# Altium schematic symbol library Molex_2005290050.SchLib: 1 symbol
Pins are listed as number, name and electrical type; pins without a type are passive.

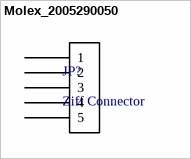
[diagram p0: symbol Molex_2005290050]

## Molex_2005290050
designator JP?, comment Ziff Connector
PartNumber: 2005290050; PartDescription: 1.0 FPC ZIF BTM CONT EMBT PKG 5C; Manufacturer: 2005290050; Package Type: 5 SMD; Supplier 1: Digi-Key; Supplier Part Number 1: WM24190CT-ND
footprint Molex_2005290050
pins: 1, 2, 3, 4, 5